# Altium integrated library Button.IntLib: 1 symbol
Pins are listed as number, name and electrical type; pins without a type are passive.

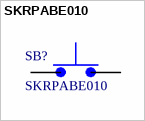
[diagram p0: symbol SKRPABE010]

## SKRPABE010
designator SB?
footprint SKRPABE010
pins: 1, 2 1, 3 2, 4 2